# Altium footprint library DriveWirePCBLib.PcbLib: 5 footprints
Each footprint in its own frame and in the unit in brackets; x right, y up, seen from the top. Pads: shape width x height; smd on the part's side, far side on the other; paste and mask are expansions set on the pad; w line width, h text height; cw(c..) or ccw(c..) is an arc to the next point about the centre after c.
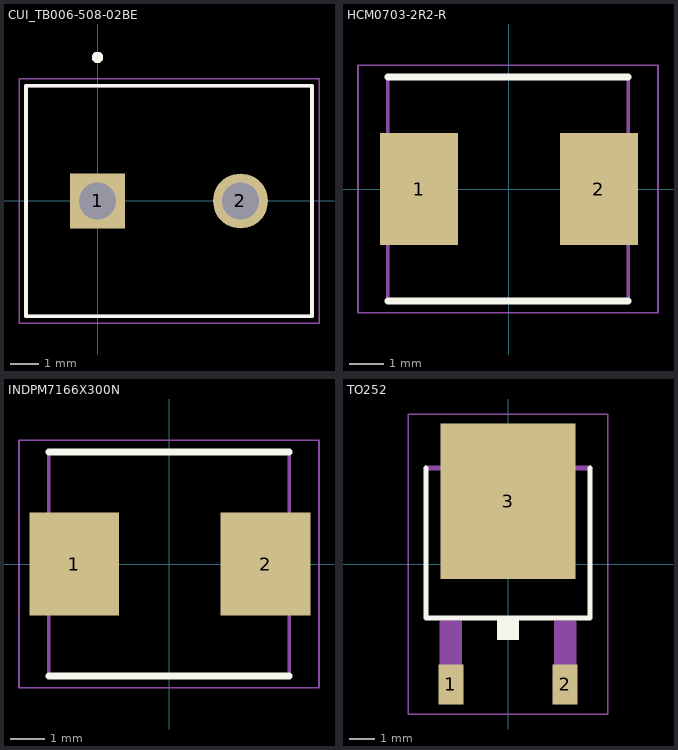
[diagram p0: the footprints below, top view; thin cyan lines are the x and y axes]

## CUI_TB006-508-02BE [mm]
pads (2):
  rect 1.95x1.95 / inner round 1.95 / far side rect 1.95x1.95 hole 1.3: 1(0,0)
  round 1.95 hole 1.3: 2(5.08,0)
Top Overlay:
  circle w0.2: c0,5.1 r0.1
  lines w0.127: -2.54,-4.1 7.62,-4.1 7.62,4.1 -2.54,4.1 -2.54,-4.1
Mechanical 13:
  circle w0.2: c0,5.1 r0.1
  lines w0.127: -2.54,-4.1 7.62,-4.1 7.62,4.1 -2.54,4.1 -2.54,-4.1
Mechanical 15:
  lines w0.05: -2.79,-4.35 -2.79,4.35 7.87,4.35 7.87,-4.35 -2.79,-4.35
3D body "step_temp.STEP": height 10, standoff -3.8, extent -2.536,-4.191 8.124,4.009

## HCM0703-2R2-R [mm]
pads (2):
  rect 2.3x3.3 smd: 1(-2.65,0) 2(2.65,0)
Top Overlay:
  lines w0.2: -3.578,-3.3 3.522,-3.3 ; -3.578,3.3 3.522,3.3
Mechanical 15:
  lines w0.1: -3.578,-3.3 3.522,-3.3 3.522,3.3 -3.578,3.3 -3.578,-3.3
Mechanical 20:
  lines w0.05: -4.453,-3.65 4.397,-3.65 4.397,3.65 -4.453,3.65 -4.453,-3.65
3D body "HCM0703-2R2-R.stp": height 3.01, standoff 0.01, extent -3.578,-3.3 3.522,3.3

## INDPM7166X300N [mm]
pads (2):
  rect 2.65x3.05 smd: 1(-2.794,0) 2(2.85,0)
Top Overlay:
  lines w0.2: -3.55,-3.3 3.55,-3.3 ; -3.55,3.3 3.55,3.3
Mechanical 15:
  lines w0.1: -3.55,-3.3 3.55,-3.3 3.55,3.3 -3.55,3.3 -3.55,-3.3
Mechanical 20:
  lines w0.05: -4.425,-3.65 4.425,-3.65 4.425,3.65 -4.425,3.65 -4.425,-3.65
3D body "HCM0703-2R2-R.stp": height 3.01, standoff 0.01, extent -3.55,-3.3 3.55,3.3

## PCBComponent_1 [mm]

## TO252 [mm]
pads (3):
  rect 1x1.6 smd: 1(-2.28,-4.8) 2(2.28,-4.8)
  rect 5.4x6.2 smd: 3(0,2.5)
Top Overlay:
  region: 0.432,-3.023 -0.432,-3.023 -0.432,-2.261 0.432,-2.261
  lines w0.203: -3.277,3.835 -3.277,-2.159 3.277,-2.159 3.277,3.835
Mechanical 13:
  region: 2.565,4.648 2.565,3.937 -2.565,3.937 -2.565,4.648 -2.108,5.105 2.108,5.105
  region: 2.718,-5.156 1.854,-5.156 1.854,-2.261 2.718,-2.261
  region: -1.854,-5.156 -2.718,-5.156 -2.718,-2.261 -1.854,-2.261
  lines w0.203: -3.277,3.835 3.277,3.835 ; -2.565,3.937 2.565,3.937 2.565,4.648 2.108,5.105 -2.108,5.105 -2.565,4.648 -2.565,3.937
Mechanical 15:
  lines w0.051: -3.973,-5.983 -3.973,5.983 3.973,5.983 3.973,-5.983 -3.973,-5.983
3D body "step_temp.STEP": height 2.4, standoff -0.2, extent -3.302,-5.016 3.302,5.016